# Altium schematic symbol library VoltageDetector.SchLib: 1 symbol
Pins are listed as number, name and electrical type; pins without a type are passive.

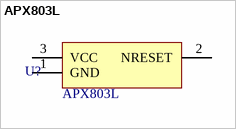
[diagram p0: symbol APX803L]

## APX803L
designator U?  value APX803L
IC SUPERVISOR 1 CHANNEL SOT23; Manufacturer 1: Diodes Incorporated; Manufacturer Part Number 1: *
footprint APX803L
pins: 1 GND, 2 NRESET, 3 VCC